# Altium schematic symbol library CSD16406Q3.SchLib: 1 symbol
Pins are listed as number, name and electrical type; pins without a type are passive.

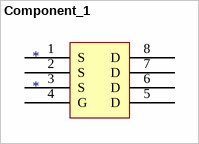
[diagram p0: symbol Component_1]

## Component_1
designator *
footprint Q3
pins: 1 S, 2 S, 3 S, 4 G, 5 D, 6 D, 7 D, 8 D